# Altium schematic symbol library ElecSystem-Vivien.SchLib: 18 symbols
Pins are listed as number, name and electrical type; pins without a type are passive.

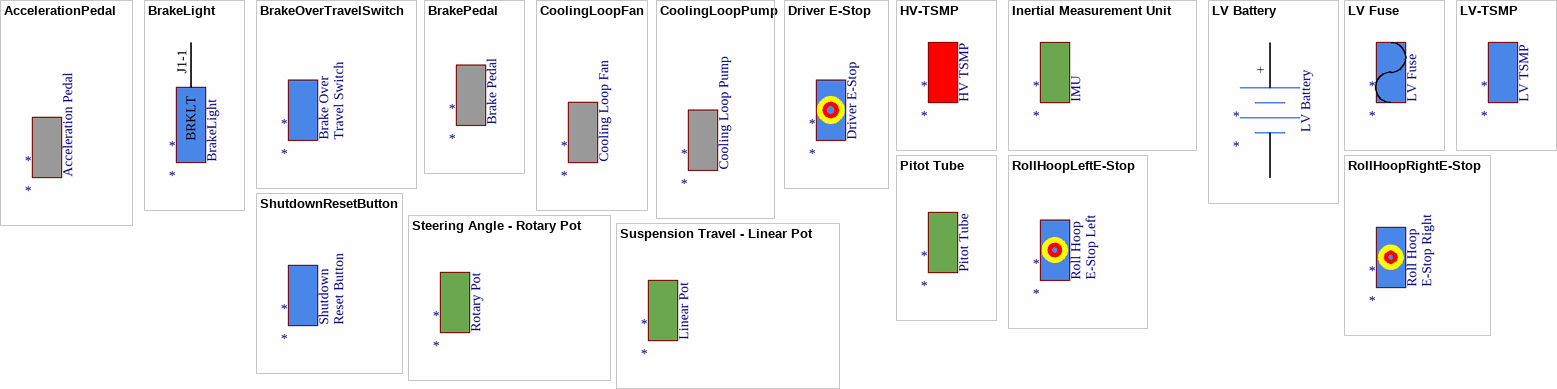
[diagram p0: symbols AccelerationPedal to Suspension Travel - Linear Pot]

## AccelerationPedal
designator *
text: Acceleration Pedal

## BrakeLight
designator *
pins: J1-1 BRKLT

## BrakeOverTravelSwitch
designator *
text: Brake Over; Travel Switch

## BrakePedal
designator *
text: Brake Pedal

## CoolingLoopFan
designator *
text: Cooling Loop Fan

## CoolingLoopPump
designator *
text: Cooling Loop Pump

## Driver E-Stop
designator *

## HV-TSMP
designator *
text: HV TSMP

## Inertial Measurement Unit
designator *
text: IMU

## LV Battery
designator *
pins: +, ?1

## LV Fuse
designator *

## LV-TSMP
designator *
text: LV TSMP

## Pitot Tube
designator *

## RollHoopLeftE-Stop
designator *
text: Roll Hoop; E-Stop Left

## RollHoopRightE-Stop
designator *
text: Roll Hoop; E-Stop Right

## ShutdownResetButton
designator *
text: Shutdown; Reset Button

## Steering Angle - Rotary Pot
designator *
text: Rotary Pot

## Suspension Travel - Linear Pot
designator *
text: Linear Pot